# Altium schematic symbol library station_de_charge_SchLib.SchLib: 56 symbols (part 2 of 2)
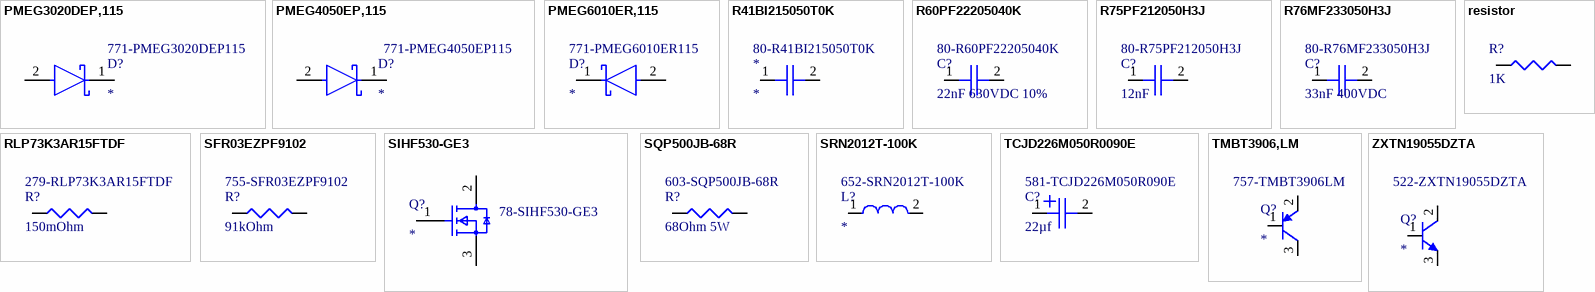
[diagram p2: symbols PMEG3020DEP,115 to ZXTN19055DZTA]

## R76MF233050H3J
designator C?, comment 33nF 400VDC  Supplier Part Number 1: 80-R76MF233050H3J
Double Metallized Polypropylene Film Capacitor; Manufacturer: KEMET; Manufacturer Part Number: R76MF233050H3J; Supplier 1: Mouser; RoHS: Yes; Category: Film Capacitors; Stock 1: 1718; Pricing 1: 1=0,69000, 10=0,48900, 50=0,37000, 100=0,32200, 1000=0,20300, 10000=0,19000 (USD)
footprint R60PF22205040K
pins: 1, 2

## resistor
designator R?, comment 1K
pins: 1, 2

## RLP73K3AR15FTDF
designator R?, comment 150mOhm  Supplier Part Number 1: 279-RLP73K3AR15FTDF
Res Thick Film 2512 150m Ohm 1% 2W ±200ppm/°C Molded SMD Embossed Plastic T/R; Manufacturer: TE Connectivity; Manufacturer Part Number: RLP73K3AR15FTDF; Supplier 1: Mouser; RoHS: Yes; Category: Chip SMD Resistors; Stock 1: 7078; Pricing 1: 1=0,76000, 10=0,63400, 50=0,63400, 100=0,42600, 1000=0,24800, 10000=0,23500 (USD); ComponentLink1URL: https://www.te.com/commerce/DocumentDelivery/DDEController?Action=srchrtrv&DocNm=2176057&DocType=Customer+Drawing&DocLang=English&src-supplier=Digi-Key; ComponentLink1Description: https://www.te.com/commerce/DocumentDelivery/DDEController?Action=srchrtrv&DocNm=2176057&DocType=Customer+Drawing&DocLang=English&src-supplier=Digi-Key; ComponentLink2URL: https://www.te.com/commerce/DocumentDelivery/DDEController?Action=srchrtrv&amp;DocNm=1773269&amp;DocType=DS&amp;DocLang=English&src-supplier=Digi-Key; ComponentLink2Description: https://www.te.com/commerce/DocumentDelivery/DDEController?Action=srchrtrv&amp;DocNm=1773269&amp;DocType=DS&amp;DocLang=English&src-supplier=Digi-Key
footprint RESC6331X70N
pins: 1, 2

## SFR03EZPF9102
designator R?, comment 91kOhm  Supplier Part Number 1: 755-SFR03EZPF9102
Sulfur Tolerant Chip Resistors; Manufacturer: ROHM; Manufacturer Part Number: SFR03EZPF9102; Supplier 1: Mouser; Stock 1: 9900; Pricing 1: 1=0,11000, 10=0,09800, 50=0,09800, 100=0,03800, 1000=0,01700, 10000=0,01200 (USD)
footprint RESC1608X55N
pins: 1, 2

## SIHF530-GE3
designator Q?  Supplier Part Number 1: 78-SIHF530-GE3
Manufacturer: Vishay; Manufacturer Part Number: SIHF530-GE3; Supplier 1: Mouser; RoHS: No; Stock 1: 547; Pricing 1: 1=0,97000, 10=0,85800, 50=0,85800, 100=0,65700, 1000=0,41600, 10000=0,36600 (USD)
footprint FP-SIHF530-GE3
pins: 1 GATE, 2 DRAIN, 3 SOURCE

## SQP500JB-68R
designator R?, comment 68Ohm 5W  Supplier Part Number 1: 603-SQP500JB-68R
SQP Series 5 W 68 Ohm ±5% ±300 ppm/°C 22x9.5x9mm Axial Lead Cement Resistor; Manufacturer: Yageo; Manufacturer Part Number: SQP500JB-68R; Voltage Rating (DC): 350V; Resistance: 68R; Supplier 1: Mouser; RoHS: Yes; Category: Through-Hole Resistors; Stock 1: 1185; Pricing 1: 1=0,63000, 10=0,46800, 50=0,33100, 100=0,27300, 1000=0,15200, 10000=0,14600 (USD); Case/Package: Axial; Min Operating Temperature: -55°C; Max Operating Temperature: 155°C; Features: Moisture Resistant; Max Power Dissipation: 5W; Temperature Coefficient: 300ppm/°C; Packaging: Bulk; Tolerance: 5%; Package Quantity: 900; Power Rating: 5W; Resistor Type: Wirewound; Number of Terminations: 2; Length: 0.866inch; Lead Free: Lead Free; ComponentLink1URL: https://datasheet.ciiva.com/2757/yageolr-sqpnsp-2013-2757217.pdf?src-supplier=Digi-Key; ComponentLink1Description: https://datasheet.ciiva.com/2757/yageolr-sqpnsp-2013-2757217.pdf?src-supplier=Digi-Key
footprint SQP500JB-68R
pins: 1, 2

## SRN2012T-100K
designator L?  Supplier Part Number 1: 652-SRN2012T-100K
Inductor Power Semi-Shielded Wirewound 10uH 10% 2.5MHz 14Q-Factor Ferrite 0.56A 0.8Ohm DCR 0805; Manufacturer: Bourns; Manufacturer Part Number: SRN2012T-100K; Supplier 1: Mouser; RoHS: No; Stock 1: 19372; Pricing 1: 1=0,28000, 10=0,20600, 50=0,20600, 100=0,16800, 500=0,14000, 1000=0,11800, 2000=0,10000, 4000=0,09900, 10000=0,09400, 24000=0,09100 (USD)
pins: 1, 2

## TCJD226M050R0090E
designator C?, comment 22µf  Supplier Part Number 1: 581-TCJD226M050R090E
Cap Tant Polymer 22uF 50VDC D CASE 20% (7.3 X 4.3 X 2.9mm) SMD 7343-31 0.09 Ohm 125C Automotive T/R; Manufacturer: Kyocera AVX; Manufacturer Part Number: TCJD226M050R0090E; Supplier 1: Mouser; RoHS: Yes; Stock 1: 3975; Pricing 1: 1=3,75000, 10=3,03000, 50=2,65000, 100=2,32000, 500=2,03000, 1000=2,03000, 10000=2,03000 (USD)
footprint CAPPM7343X310N
pins: 1, 2

## TMBT3906,LM
designator Q?  Supplier Part Number 1: 757-TMBT3906LM
TRANSPNP50V0.15ASOT23-3; Manufacturer: Toshiba; Manufacturer Part Number: TMBT3906,LM; Max Collector Current: 150mA; Collector Emitter Voltage (VCEO): 400mV; Max Power Dissipation: 320mW; Transition Frequency: 250MHz; Collector Emitter Breakdown Voltage: 50V; Supplier 1: Mouser; RoHS: Yes; Category: BJTs; Stock 1: 7851; Pricing 1: 1=0,18000, 10=0,16800, 50=0,16800, 100=0,09100, 500=0,05600, 1000=0,03900, 3000=0,02900, 9000=0,02500, 10000=0,02500, 24000=0,02200, 45000=0,01900 (USD); Mount: Surface Mount; Case/Package: TO-236-3; Packaging: Tape and Reel; Max Breakdown Voltage: 50V; ComponentLink1URL: http://www.mouser.com/ds/2/408/TMBT3906_datasheet_en_20150108-736658.pdf?src-supplier=Mouser; ComponentLink1Description: http://www.mouser.com/ds/2/408/TMBT3906_datasheet_en_20150108-736658.pdf?src-supplier=Mouser; ComponentLink2URL: https://toshiba.semicon-storage.com/info/docget.jsp?did=29746&prodName=TMBT3906&src-supplier=Digi-Key; ComponentLink2Description: https://toshiba.semicon-storage.com/info/docget.jsp?did=29746&prodName=TMBT3906&src-supplier=Digi-Key
footprint FP-TMBT3906 (SOT23, 3-Leads, Body 2,90x2,40mm, Pitch 0,95mm, IPC Medium Density)
pins: 1 B, 2 E, 3 C

## ZXTN19055DZTA
designator Q?  Supplier Part Number 1: 522-ZXTN19055DZTA
TRANS NPN 55V 6A SOT89; Manufacturer: Diodes Zetex; Manufacturer Part Number: ZXTN19055DZTA; Max Power Dissipation: 2.1W; Collector Base Voltage (VCBO): 150V; Frequency: 200MHz; Number of Elements: 1; Emitter Base Voltage (VEBO): 7V; Collector Emitter Saturation Voltage: 250mV; Element Configuration: Single; Supplier 1: Mouser; RoHS: Yes; Category: BJTs; Stock 1: 6672; Pricing 1: 1=0,73000, 10=0,64800, 50=0,64800, 100=0,49700, 1000=0,31300, 10000=0,26500 (USD); Mount: Surface Mount; Case/Package: SOT-89; Number of Pins: 4; Weight: 0.001834oz; Min Operating Temperature: -55°C; Max Operating Temperature: 150°C; Collector Emitter Voltage (VCEO): 55V; Max Collector Current: 6A; Packaging: Tape and Reel; Package Quantity: 1000; Transition Frequency: 200MHz; Collector Emitter Breakdown Voltage: 55V; Max Breakdown Voltage: 55V; Polarity: NPN; Power Dissipation: 2.1W; Gain Bandwidth Product: 200MHz; Max Frequency: 200MHz; Voltage Rating (DC): 55V; Current Rating: 6A; Series: -; Collector-emitter Voltage-Max: 250mV; Length: 4.6mm; Width: 2.6mm; Height: 1.6mm; Radiation Hardening: No; REACH SVHC: No SVHC; Lead Free: Lead Free; RoHS Compliant: Yes; ComponentLink1URL: https://datasheet.ciiva.com/11207/zxtn19055dz-11207305.pdf?src-supplier=Avnet; ComponentLink1Description: https://datasheet.ciiva.com/11207/zxtn19055dz-11207305.pdf?src-supplier=Avnet; ComponentLink2URL: https://datasheet.ciiva.com/6359/zxtn19055dz-6359881.pdf?src-supplier=Digi-Key; ComponentLink2Description: https://datasheet.ciiva.com/6359/zxtn19055dz-6359881.pdf?src-supplier=Digi-Key; ComponentLink3URL: https://datasheet.ciiva.com/6359/zxtn19055dz-6359879.pdf?src-supplier=Digi-Key; ComponentLink3Description: https://datasheet.ciiva.com/6359/zxtn19055dz-6359879.pdf?src-supplier=Digi-Key
footprint VREG_AP2204RA-3.3TRG1
pins: 1 B, 2 C, 3 E